# EAGLE library part ATTINY85 (library attiny85)
ATMEL ATtiny 85
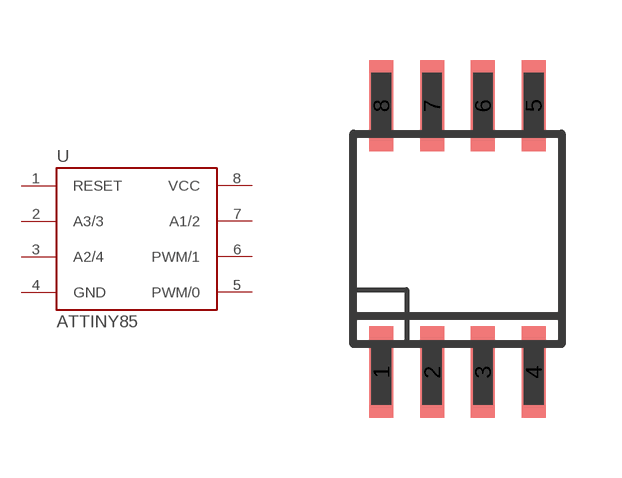
[diagram p0: symbol with the pads of ATTINY85; footprint ATTINY85]

Designator prefix U

## ATTINY85SU  [ATTINY85]
1  RESET
2  A3/3
3  A2/4
4  GND  pwr
5  PWM/0
6  PWM/1
7  A1/2
8  VCC  pwr

## Footprint ATTINY85 (pad centres in mm)
ATTINY85 208-mil body
smd 0.6 x 2.286: 1 -1.905,-3.33; 2 -0.635,-3.33; 3 0.635,-3.33; 4 1.905,-3.33; 5 1.905,3.33; 6 0.635,3.33; 7 -0.635,3.33; 8 -1.905,3.33